# EAGLE library part LP5007NL (library vikc-coils)
Magnetic Coil for Ethernet POe
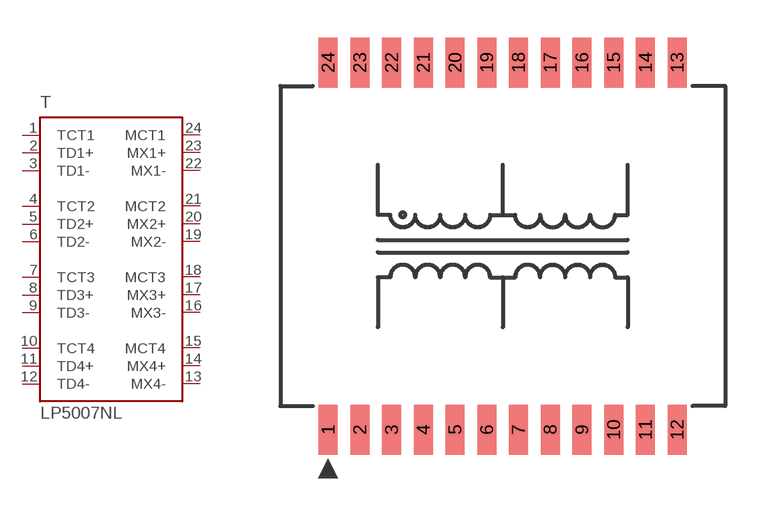
[diagram p0: symbol with the pads of LP5007NL; footprint LP5007NL]

Designator prefix T

## LP5007NL  [LP5007NL]
1  TCT1
2  TD1+
3  TD1-
4  TCT2
5  TD2+
6  TD2-
7  TCT3
8  TD3+
9  TD3-
10  TCT4
11  TD4+
12  TD4-
13  MX4-
14  MX4+
15  MCT4
16  MX3-
17  MX3+
18  MCT3
19  MX2-
20  MX2+
21  MCT2
22  MX1-
23  MX1+
24  MCT1

## Footprint LP5007NL (pad centres in mm)
smd 0.76 x 2: 1 -6.985,-7.35; 2 -5.715,-7.35; 3 -4.445,-7.35; 4 -3.175,-7.35; 5 -1.905,-7.35; 6 -0.635,-7.35; 7 0.635,-7.35; 8 1.905,-7.35; 9 3.175,-7.35; 10 4.445,-7.35; 11 5.715,-7.35; 12 6.985,-7.35; 13 6.985,7.35; 14 5.715,7.35; 15 4.445,7.35; 16 3.175,7.35; 17 1.905,7.35; 18 0.635,7.35; 19 -0.635,7.35; 20 -1.905,7.35; 21 -3.175,7.35; 22 -4.445,7.35; 23 -5.715,7.35; 24 -6.985,7.35